# Altium footprint library inductor_footprints.PcbLib: 4 footprints
Each footprint in its own frame and in the unit in brackets; x right, y up, seen from the top. Pads: shape width x height; smd on the part's side, far side on the other; paste and mask are expansions set on the pad; w line width, h text height; cw(c..) or ccw(c..) is an arc to the next point about the centre after c.
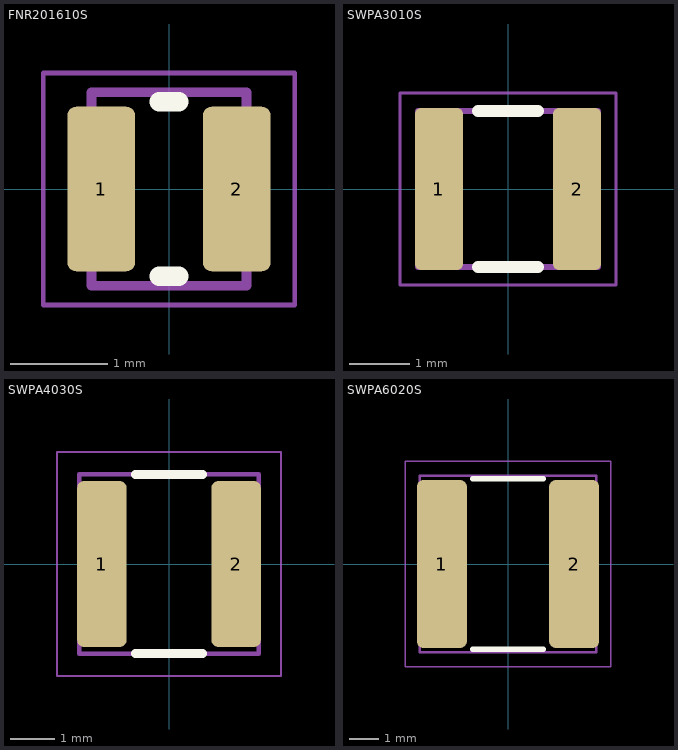
[diagram p0: the footprints below, top view; thin cyan lines are the x and y axes]

## FNR201610S [mm] "Wire Wound SMD Power Inductors 2.0×1.6×1.0"
pads (2):
  rrect25% 0.7x1.7 smd paste+0: 1(-0.7,0) 2(0.7,0)
Top Overlay:
  lines w0.2: -0.1,-0.9 0.1,-0.9 ; -0.1,0.9 0.1,0.9
Top Assembly:
  lines w0.1: -0.8,-1 0.8,-1 0.8,1 -0.8,1 -0.8,-1
Top Courtyard:
  lines w0.05: -1.3,-1.2 1.3,-1.2 1.3,1.2 -1.3,1.2 -1.3,-1.2
3D body "FNR201610S (estimate) v2.step": height 0.95, standoff 0, extent -1,-0.8 1,0.8

## SWPA3010S [mm] "Wire Wound SMD Power Inductor 3.0×3.0×1.0"
pads (2):
  rrect25% 0.8x2.7 smd paste+0: 1(-1.15,0) 2(1.15,0)
Top Overlay:
  lines w0.2: -0.5,-1.3 0.5,-1.3 ; -0.5,1.3 0.5,1.3
Top Assembly:
  lines w0.1: -1.5,-1.3 -1.5,1.3 1.5,1.3 1.5,-1.3 -1.5,-1.3
Top Courtyard:
  lines w0.05: -1.8,-1.6 1.8,-1.6 1.8,1.6 -1.8,1.6 -1.8,-1.6
3D body "SWPA3010S.STEP": height 0.99, standoff 0, extent -1.5,-1.5 1.5,1.5

## SWPA4030S [mm] "Wire Wound SMD Power Inductor 4.0×4.0×3.0"
pads (2):
  rrect25% 1.1x3.7 smd paste+0: 1(-1.5,0) 2(1.5,0)
Top Overlay:
  lines w0.2: -0.75,-2 0.75,-2 ; -0.75,2 0.75,2
Top Assembly:
  lines w0.1: -2,-2 2,-2 2,2 -2,2 -2,-2
Top Courtyard:
  lines w0.05: -2.5,-2.5 -2.5,2.5 2.5,2.5 2.5,-2.5 -2.5,-2.5
3D body "SWPA4030S.STEP": height 3, standoff 0, extent -2,-2 2,2

## SWPA6020S [mm] "Wire Wound SMD Power Inductor 6.0×6.0×2.0"
pads (2):
  rrect25% 1.7x5.7 smd paste+0: 1(-2.25,0) 2(2.25,0)
Top Overlay:
  lines w0.2: -1.2,-2.9 1.2,-2.9 ; -1.2,2.9 1.2,2.9
Top Assembly:
  lines w0.1: -3,-3 3,-3 3,3 -3,3 -3,-3
Top Courtyard:
  lines w0.05: -3.5,-3.5 3.5,-3.5 3.5,3.5 -3.5,3.5 -3.5,-3.5
3D body "SWPA6020S Inductor v0.step": height 2, standoff 0, extent -3,-3 3,3